# EAGLE library part LOGIC (library hal-config)
LOGIC NAME logic − LinuxCNC HAL component providing configurable logic functions SYNOPSIS loadrt logic [count=N|names=name1[,name2...]] [personality=P,P,...] DESCRIPTION General ’logic function’ component. Can perform ’and’, ’or’ and ’xor’ of up to 16 inputs. Determine the proper value for ’personality’ by adding the inputs and outputs then convert to hex: • The number of input pins, usually from 2 to 16 • 256 (0x100) if the ’and’ output is desired • 512 (0x200) if the ’or’ output is desired • 1024 (0x400) if the ’xor’ (exclusive or) output is desired Outputs can be combined, for example 2 + 256 + 1024 = 1282 converted to hex would be 0x502 and would have two inputs and have both ’xor’ and ’and’ outputs. FUNCTIONS logic.N PINS logic.N.in-MM bit in (MM=00..personality & 0xff) logic.N.and bit out [if personality & 0x100] logic.N.or bit out [if personality & 0x200] logic.N.xor bit out [if personality & 0x400]
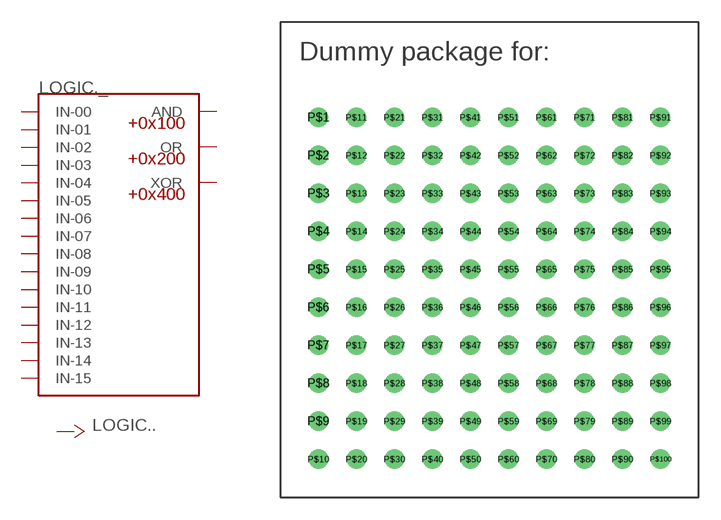
[diagram p25: symbol with the pads of DUMMY; footprint DUMMY]

Designator prefix LOGIC.; gates _=LOGIC .=PIN_FUNCTION

## LOGIC  [DUMMY]
P$1  .:PIN_THREAD
P$2  _:AND  out
P$3  _:IN-00  in
P$4  _:IN-01  in
P$5  _:IN-02  in
P$6  _:IN-03  in
P$7  _:IN-04  in
P$8  _:IN-05  in
P$9  _:IN-06  in
P$10  _:IN-07  in
P$11  _:IN-08  in
P$12  _:IN-09  in
P$13  _:IN-10  in
P$14  _:IN-11  in
P$15  _:IN-12  in
P$16  _:IN-13  in
P$17  _:IN-14  in
P$18  _:IN-15  in
P$19  _:OR  out
P$20  _:XOR  out

## Footprint DUMMY (pad centres in mm)
drill 0.8: P$1 0,-1.27; P$2 0,-3.81; P$3 0,-6.35; P$4 0,-8.89; P$5 0,-11.43; P$6 0,-13.97; P$7 0,-16.51; P$8 0,-19.05; P$9 0,-21.59; P$10 0,-24.13; P$11 2.54,-1.27; P$12 2.54,-3.81; P$13 2.54,-6.35; P$14 2.54,-8.89; P$15 2.54,-11.43; P$16 2.54,-13.97; P$17 2.54,-16.51; P$18 2.54,-19.05; P$19 2.54,-21.59; P$20 2.54,-24.13; P$21 5.08,-1.27; P$22 5.08,-3.81; P$23 5.08,-6.35; P$24 5.08,-8.89; P$25 5.08,-11.43; P$26 5.08,-13.97; P$27 5.08,-16.51; P$28 5.08,-19.05; P$29 5.08,-21.59; P$30 5.08,-24.13; P$31 7.62,-1.27; P$32 7.62,-3.81; P$33 7.62,-6.35; P$34 7.62,-8.89; P$35 7.62,-11.43; P$36 7.62,-13.97; P$37 7.62,-16.51; P$38 7.62,-19.05; P$39 7.62,-21.59; P$40 7.62,-24.13; P$41 10.16,-1.27; P$42 10.16,-3.81; P$43 10.16,-6.35; P$44 10.16,-8.89; P$45 10.16,-11.43; P$46 10.16,-13.97; P$47 10.16,-16.51; P$48 10.16,-19.05; P$49 10.16,-21.59; P$50 10.16,-24.13; P$51 12.7,-1.27; P$52 12.7,-3.81; P$53 12.7,-6.35; P$54 12.7,-8.89; P$55 12.7,-11.43; P$56 12.7,-13.97; P$57 12.7,-16.51; P$58 12.7,-19.05; P$59 12.7,-21.59; P$60 12.7,-24.13; P$61 15.24,-1.27; P$62 15.24,-3.81; P$63 15.24,-6.35; P$64 15.24,-8.89; P$65 15.24,-11.43; P$66 15.24,-13.97; P$67 15.24,-16.51; P$68 15.24,-19.05; P$69 15.24,-21.59; P$70 15.24,-24.13; P$71 17.78,-1.27; P$72 17.78,-3.81; P$73 17.78,-6.35; P$74 17.78,-8.89; P$75 17.78,-11.43; P$76 17.78,-13.97; P$77 17.78,-16.51; P$78 17.78,-19.05; P$79 17.78,-21.59; P$80 17.78,-24.13; P$81 20.32,-1.27; P$82 20.32,-3.81; P$83 20.32,-6.35; P$84 20.32,-8.89; P$85 20.32,-11.43; P$86 20.32,-13.97; P$87 20.32,-16.51; P$88 20.32,-19.05; P$89 20.32,-21.59; P$90 20.32,-24.13; P$91 22.86,-1.27; P$92 22.86,-3.81; P$93 22.86,-6.35; P$94 22.86,-8.89; P$95 22.86,-11.43; P$96 22.86,-13.97; P$97 22.86,-16.51; P$98 22.86,-19.05; P$99 22.86,-21.59; P$100 22.86,-24.13